# Altium schematic symbol library 74_series.SchLib: 1 symbol
Pins are listed as number, name and electrical type; pins without a type are passive.

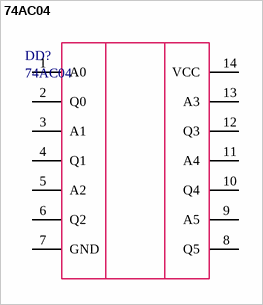
[diagram p0: symbol 74AC04]

## 74AC04
designator DD?
footprint SOIC-14
pins: 1 A0, 2 Q0, 3 A1, 4 Q1, 5 A2, 6 Q2, 7 GND, 8 Q5, 9 A5, 10 Q4, 11 A4, 12 Q3, 13 A3, 14 VCC